# Altium footprint library 9-Comp+Tests.PcbLib: 125 footprints (part 5 of 8)
Each footprint in its own frame and in the unit in brackets; x right, y up, seen from the top. Pads: shape width x height; smd on the part's side, far side on the other; paste and mask are expansions set on the pad; w line width, h text height; cw(c..) or ccw(c..) is an arc to the next point about the centre after c.
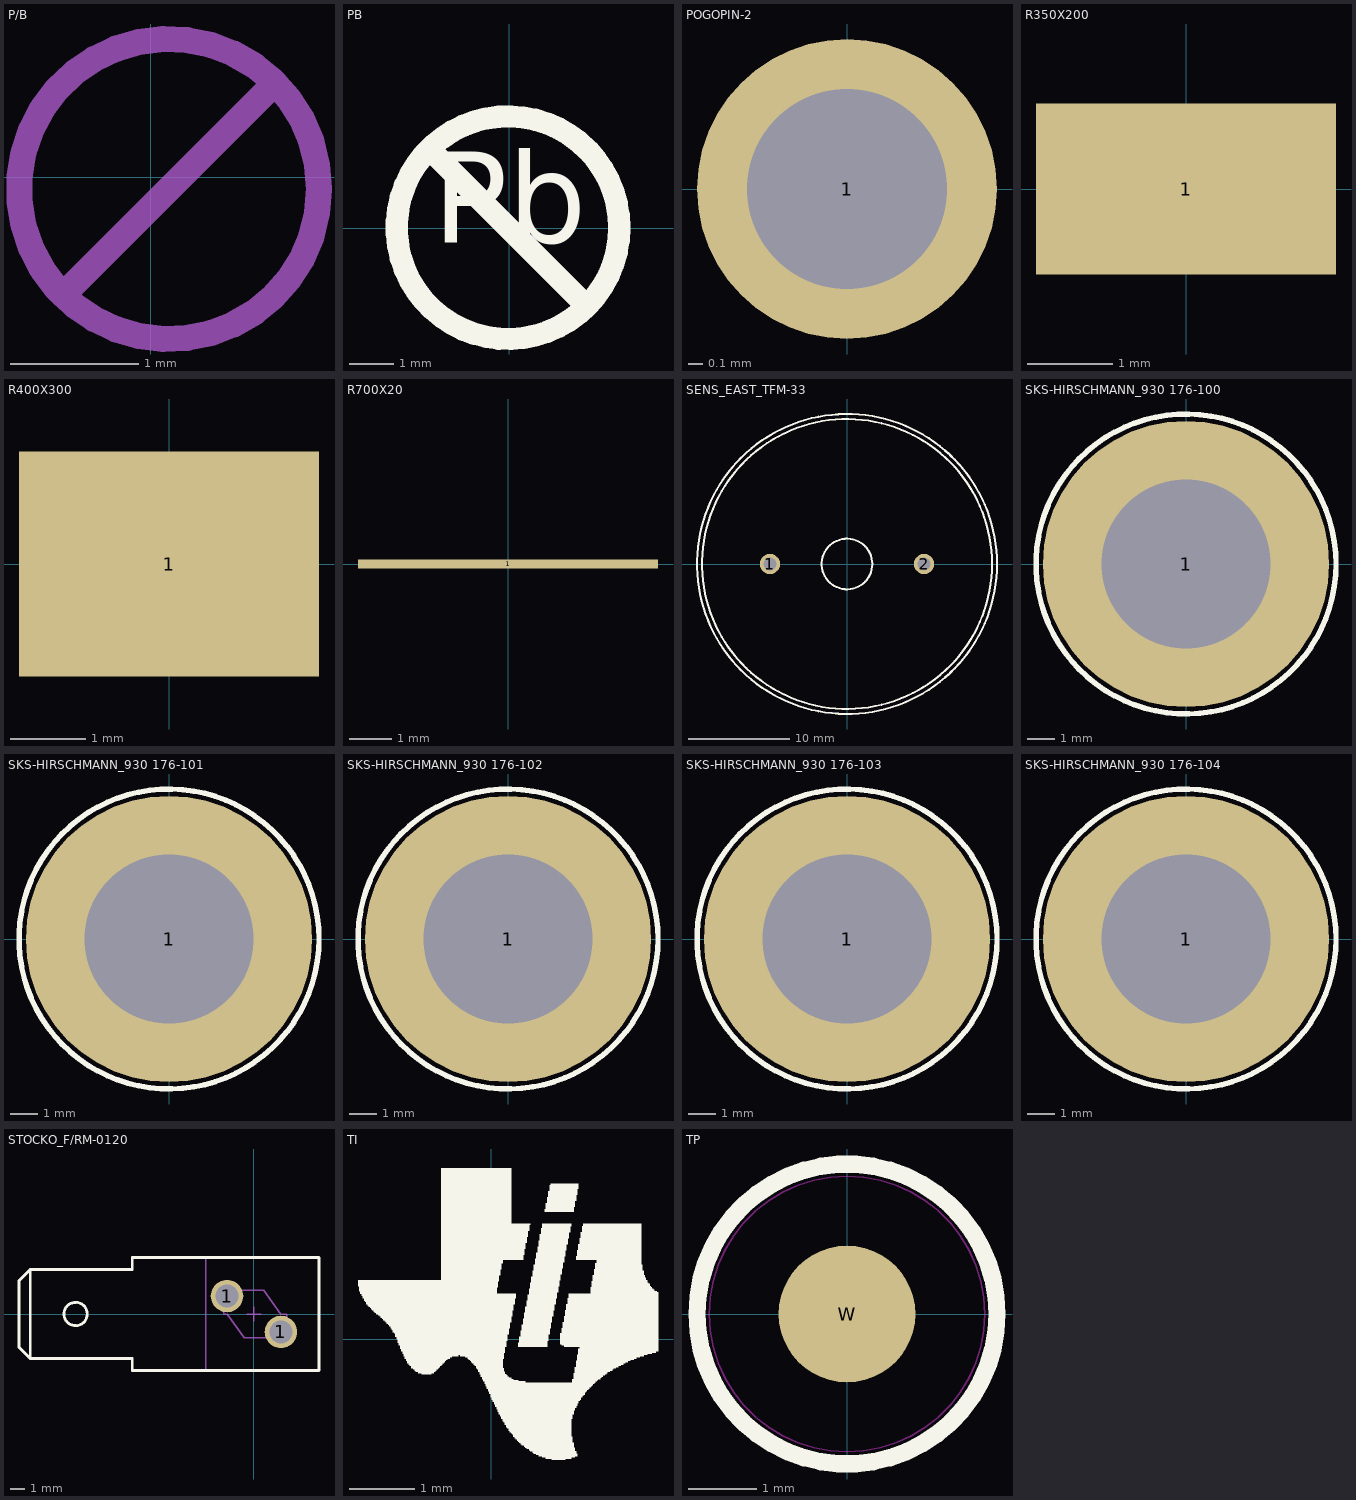
[diagram p4: the footprints below, top view; thin cyan lines are the x and y axes]

## P/B [mm]
height 11.7
Top Solder:
  circle w0.203: c0.144,-0.091 r1.168
  lines w0.203: -0.682,-0.917 0.97,0.735
  text "Pb" at -0.608,0.389 h1.52

## PB [mm]
Top Overlay:
  circle w0.5: c-0.031,0.013 r2.5
  lines w0.5: -1.737,1.719 1.675,-1.693
  text "Pb" at -1.725,-1 h3.5
3D body "pb.stp": height 0.02, standoff 0, extent -2.725,-2.725 2.725,2.725

## PCBComponent_1 [mm]

## POGOPIN-2 [mm]
height 11.7
pads (1):
  round 2.1 hole 1.4: 1(0,0)
3D body "pogopin-2.stp": height 0.8, standoff -1.1, extent -1,-1 1,1

## R350X200 [mm] "3.5mm x  2mm SMD Pad"
height 11.7
pads (1):
  rect 3.5x2 smd paste-1: 1(0,0)
3D body "p350-200.stp": height 0.02, standoff 0, extent -1.75,-1 1.75,1

## R400X300 [mm] "4mm x  3mm SMD Pad"
height 11.7
pads (1):
  rect 4x3 smd paste-1.5: 1(0,0)
3D body "p400-300.stp": height 0.02, standoff 0, extent -2,-1.5 2,1.5

## R700X20 [mm] "7mm x  0.2mm SMD Pad"
height 11.7
pads (1):
  rect 7x0.2 smd paste-0.1: 1(0,0)
3D body "p700-020.stp": height 0.02, standoff 0, extent -3.5,-0.1 3.5,0.1

## SENS_EAST_TFM-33 [mm] "EAST Piezo Transducer, Body Dia. 29.6mm, Pitch 15.2mm"
height 7.5
pads (2):
  round 2 hole 1.3: 1(-7.6,0) 2(7.6,0)
Top Overlay:
  circle w0.2: c0,0 r14.8
  circle w0.2: c0,0 r14.3
  circle w0.2: c0,0 r2.5
Mechanical 14:
  circle w0.1: c-7.6,0 r0.5
  circle w0.1: c7.6,0 r0.5
  circle w0.1: c0,0 r2.5
  circle w0.1: c0,0 r14.3
  circle w0.1: c0,0 r14.8
3D body "SENS_EAST_TFM-33.stp": height 7.5, standoff -3.6, extent -14.8,-14.8 14.8,14.8

## SKS-HIRSCHMANN_930 176-100 [mm] "Black Socket For Banana 4mm"
height 5
pads (1):
  round 10.5 hole 6.2: 1(0,0)
Top Overlay:
  circle w0.2: c0,0 r5.5
Mechanical 14:
  circle w0.1: c0.003,-0.002 r3
  circle w0.1: c0,0 r2
  circle w0.1: c0,0 r5
3D body "SKS-HIRSCHMANN_930 176-100.stp": height 5, standoff -18.5, extent -5,-5 5,5

## SKS-HIRSCHMANN_930 176-101 [mm] "Red Socket For Banana 4mm"
height 5
pads (1):
  round 10.5 hole 6.2: 1(0,0)
Top Overlay:
  circle w0.2: c0,0 r5.5
Mechanical 14:
  circle w0.1: c0,0 r5
  circle w0.1: c0,0 r2
  circle w0.1: c0.003,-0.002 r3
3D body "SKS-HIRSCHMANN_930 176-101.stp": height 5, standoff -18.5, extent -5,-5 5,5

## SKS-HIRSCHMANN_930 176-102 [mm] "Blue Socket For Banana 4mm"
height 5
pads (1):
  round 10.5 hole 6.2: 1(0,0)
Top Overlay:
  circle w0.2: c0,0 r5.5
Mechanical 14:
  circle w0.1: c0.002,0.003 r3
  circle w0.1: c0,0 r2
  circle w0.1: c0,0 r5
3D body "SKS-HIRSCHMANN_930 176-102.stp": height 5, standoff -18.5, extent -5,-5 5,5

## SKS-HIRSCHMANN_930 176-103 [mm] "Yellow Socket For Banana 4mm"
height 5
pads (1):
  round 10.5 hole 6.2: 1(0,0)
Top Overlay:
  circle w0.2: c0,0 r5.5
Mechanical 14:
  circle w0.1: c0,0 r5
  circle w0.1: c0,0 r2
  circle w0.1: c0.002,0.003 r3
3D body "SKS-HIRSCHMANN_930 176-103.stp": height 5, standoff -18.5, extent -5,-5 5,5

## SKS-HIRSCHMANN_930 176-104 [mm] "Green Socket For Banana 4mm"
height 5
pads (1):
  round 10.5 hole 6.2: 1(0,0)
Top Overlay:
  circle w0.2: c0,0 r5.5
Mechanical 14:
  circle w0.1: c0.002,0.003 r3
  circle w0.1: c0,0 r2
  circle w0.1: c0,0 r5
3D body "SKS-HIRSCHMANN_930 176-104.stp": height 5, standoff -18.5, extent -5,-5 5,5

## STOCKO_F/RM-0120 [mm] "6.35mm x 0.8mm PCB Horizontal Terminal Tab"
height 2.8
pads (2):
  round 2.3 hole 1.6: 1(-1.905,1.27) 1(1.905,-1.27)
Top Overlay:
  circle w0.2: c-12.605,0 r0.825
  lines w0.2: -15.805,-3.15 -16.605,-2.35 -16.605,2.35 -15.805,3.15 ; -15.805,-3.15 -8.605,-3.15 -8.605,-4 4.595,-4 4.595,4 -8.605,4 -8.605,3.15 -15.805,3.15 ; -15.805,-3.15 -15.805,3.15
Mechanical 8:
  lines w0.1: -2.405,1.27 -1.905,1.27 ; -1.905,0.77 -1.905,1.27 ; -1.905,1.77 -1.905,1.27 ; -1.405,1.27 -1.905,1.27 ; -0.5,0 0,0 ; 0,-0.5 0,0 ; 0,0.5 0,0 ; 0.5,0 0,0 ; 1.405,-1.27 1.905,-1.27 ; 1.905,-1.77 1.905,-1.27 ; 1.905,-0.77 1.905,-1.27 ; 2.405,-1.27 1.905,-1.27
Mechanical 14:
  circle w0.1: c-12.605,0 r0.825
  lines w0.1: -3.405,-4 -3.405,4 ; -15.805,-3.15 -8.605,-3.15 -8.605,-4 4.595,-4 4.595,4 -8.605,4 -8.605,3.15 -15.805,3.15 ; -15.805,-3.15 -16.605,-2.35 -16.605,2.35 -15.805,3.15 ; -15.805,-3.15 -15.805,3.15 ; -2.144,0 -2.144,0.87 -1.505,0.87 -1.505,1.67 0.705,1.67 1.905,0 2.305,0 2.305,-0.87 1.505,-0.87 1.505,-1.67 -0.705,-1.67 -1.905,0 -2.144,0
3D body "STOCKO_F-RM-0120.stp": height 2.8, standoff -3.7, extent -16.605,-4 4.595,4

## TI [mm]
height 11.7
Top Overlay:
  drawing of 3 lines, arcs and shapes, not listed

## TP [mm]
height 11.7
pads (1):
  round 2 smd mask+1: W(0,0)
Top Overlay:
  circle w0.254: c0,0 r2.195
Keep-Out Layer:
  circle w0.025: c0,0 r2.017
3D body "1_016-1_016-3_tp.stp": height 0.02, standoff 0, extent -1.5,-1.5 1.5,1.5